# Altium schematic symbol library ams1117.SchLib: 1 symbol
Pins are listed as number, name and electrical type; pins without a type are passive.

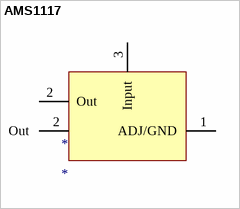
[diagram p0: symbol AMS1117]

## AMS1117
designator *
footprint PCBComponent_1
pins: 1 ADJ/GND, 2 Out, 2 Out, 3 Input